# Altium footprint library MT_Connector.PcbLib: 46 footprints (part 1 of 3)
Each footprint in its own frame and in the unit in brackets; x right, y up, seen from the top. Pads: shape width x height; smd on the part's side, far side on the other; paste and mask are expansions set on the pad; w line width, h text height; cw(c..) or ccw(c..) is an arc to the next point about the centre after c.
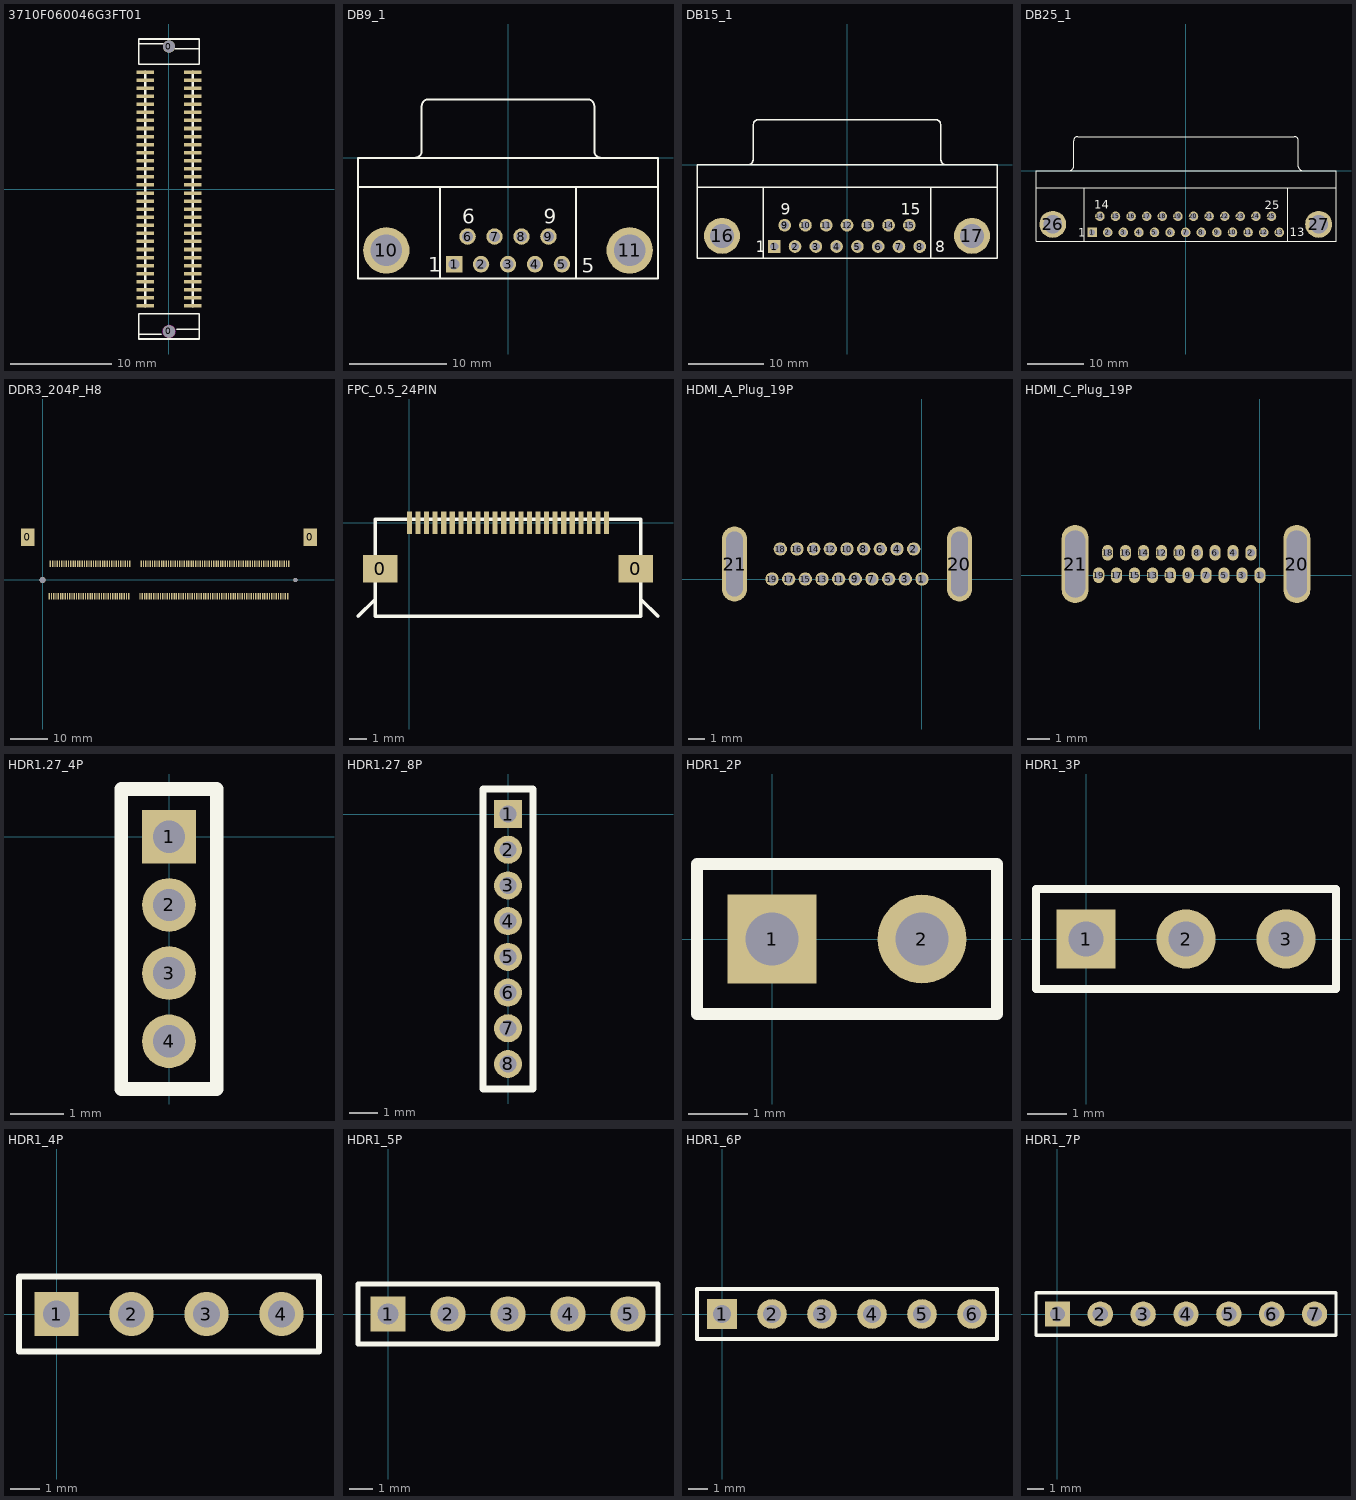
[diagram p0: the footprints below, top view; thin cyan lines are the x and y axes]

## 3710F060046G3FT01 [mm]
pads (62):
  round 1.2 hole 1.2: 0(0,-14.125) 0(0,14.125)
  rect 1.7x0.35 smd: 1(-2.35,11.6) 2(-2.35,10.8) 3(-2.35,10) 4(-2.35,9.2) 5(-2.35,8.4) 6(-2.35,7.6) 7(-2.35,6.8) 8(-2.35,6) 9(-2.35,5.2) 10(-2.35,4.4) 11(-2.35,3.6) 12(-2.35,2.8) 13(-2.35,2) 14(-2.35,1.2) 15(-2.35,0.4) 16(-2.35,-0.4) 17(-2.35,-1.2) 18(-2.35,-2) 19(-2.35,-2.8) 20(-2.35,-3.6) 21(-2.35,-4.4) 22(-2.35,-5.2) 23(-2.35,-6) 24(-2.35,-6.8) 25(-2.35,-7.6) 26(-2.35,-8.4) 27(-2.35,-9.2) 28(-2.35,-10) 29(-2.35,-10.8) 30(-2.35,-11.6) 31(2.35,-11.6) 32(2.35,-10.8) 33(2.35,-10) 34(2.35,-9.2) 35(2.35,-8.4) 36(2.35,-7.6) 37(2.35,-6.8) 38(2.35,-6) 39(2.35,-5.2) 40(2.35,-4.4) 41(2.35,-3.6) 42(2.35,-2.8) 43(2.35,-2) 44(2.35,-1.2) 45(2.35,-0.4) 46(2.35,0.4) 47(2.35,1.2) 48(2.35,2) 49(2.35,2.8) 50(2.35,3.6) 51(2.35,4.4) 52(2.35,5.2) 53(2.35,6) 54(2.35,6.8) 55(2.35,7.6) 56(2.35,8.4) 57(2.35,9.2) 58(2.35,10) 59(2.35,10.8) 60(2.35,11.6)
Top Overlay:
  lines w0.152: -3,-14.4 -0.75,-14.4 ; -3,14.4 -0.55,14.4 ; 0.55,13.9 3,13.9 ; 0.75,-13.9 3,-13.9 ; 2.975,12.375 -3,12.375 -3,14.875 3,14.875 3,12.375 ; -3,-14.875 -3,-12.375 3,-12.375 3,-14.875 -3,-14.875
  lines w0.254: -2.35,-11.6 -2.35,11.6 ; 2.35,-11.6 2.35,11.6
Keep-Out Layer:
  circle w0.152: c0,-14.125 r0.6
  circle w0.152: c0,14.125 r0.5

## DB9_1 [mm]
pads (11):
  rect 1.69x1.69 hole 1.09: 1(-5.54,-10.92)
  round 1.69 hole 1.09: 2(-2.77,-10.92) 3(0,-10.92) 4(2.77,-10.92) 5(5.54,-10.92) 6(-4.155,-8.08) 7(-1.385,-8.08) 8(1.385,-8.08) 9(4.155,-8.08)
  round 4.76 hole 3.26: 10(-12.495,-9.5) 11(12.495,-9.5)
Top Overlay:
  lines w0.2: -15.4,-3 15.4,-3 ; -9.56,0.005 ccw(c-9.56,0.7) -8.865,0.7 -8.865,5.3 ; -8.86,5.305 cw(c-8.165,5.305) -8.165,6 8.165,6 cw(c8.165,5.305) 8.86,5.305 ; -7,-12.4 -7,-3 ; 7,-12.4 7,-3 ; 8.865,5.3 8.865,0.7 ccw(c9.56,0.7) 9.56,0.005 ; -15.4,-12.4 15.4,-12.4 15.4,0 -15.4,0 -15.4,-12.4
  text "6" at -4.675,-6.775 h1.5
  text "9" at 3.65,-6.75 h1.5
  text "5" at 7.55,-11.775 h1.5
  text "1" at -8.165,-11.7 h1.5
3D body "DB9.STEP": height 12.53, standoff -3.97, extent -15.45,-12.4 15.45,6

## DB15_1 [mm]
pads (17):
  rect 1.69x1.69 hole 1.09: 1(-9.695,-10.92)
  round 1.69 hole 1.09: 2(-6.925,-10.92) 3(-4.155,-10.92) 4(-1.385,-10.92) 5(1.385,-10.92) 6(4.155,-10.92) 7(6.925,-10.92) 8(9.695,-10.92) 9(-8.31,-8.08) 10(-5.54,-8.08) 11(-2.77,-8.08) 12(0,-8.08) 13(2.77,-8.08) 14(5.54,-8.08) 15(8.31,-8.08)
  round 4.8 hole 3.18: 16(-16.66,-9.5) 17(16.66,-9.5)
Top Overlay:
  lines w0.2: -20,-3 20,-3 ; -13.195,0.005 ccw(c-13.195,0.7) -12.5,0.7 -12.5,5.3 ; -12.495,5.305 cw(c-11.8,5.305) -11.8,6 11.8,6 cw(c11.8,5.305) 12.495,5.305 ; -11.14,-12.5 -11.14,-3 ; 11.14,-12.5 11.14,-3 ; 12.5,5.3 12.5,0.7 ccw(c13.195,0.7) 13.195,0.005 ; -20,-12.5 20,-12.5 20,0 -20,0 -20,-12.5
  text "9" at -8.825,-6.7 h1.5
  text "15" at 7.175,-6.7 h1.5
  text "8" at 11.8,-11.7 h1.5
  text "1" at -12.175,-11.7 h1.5
3D body "SD15S-RA-PC.STEP": height 12.57, standoff -3.47, extent -20.125,-12.325 20.125,5.975

## DB25_1 [mm]
pads (27):
  rect 1.69x1.69 hole 1.09: 1(-16.566,-10.92)
  round 1.69 hole 1.09: 2(-13.805,-10.92) 3(-11.044,-10.92) 4(-8.283,-10.92) 5(-5.522,-10.92) 6(-2.761,-10.92) 7(0,-10.92) 8(2.761,-10.92) 9(5.522,-10.92) 10(8.283,-10.92) 11(11.044,-10.92) 12(13.805,-10.92) 13(16.566,-10.92) 14(-15.185,-8.08) 15(-12.424,-8.08) 16(-9.663,-8.08) 17(-6.902,-8.08) 18(-4.141,-8.08) 19(-1.38,-8.08) 20(1.381,-8.08) 21(4.142,-8.08) 22(6.903,-8.08) 23(9.664,-8.08) 24(12.425,-8.08) 25(15.186,-8.08)
  round 4.76 hole 3.26: 26(-23.526,-9.5) 27(23.526,-9.5)
Top Overlay:
  lines w0.2: -26.496,-3 26.604,-3 ; -20.541,0.005 ccw(c-20.541,0.7) -19.846,0.7 -19.846,5.3 ; -19.841,5.305 cw(c-19.146,5.305) -19.146,6 19.254,6 cw(c19.254,5.305) 19.949,5.305 ; -17.946,-12.5 -17.946,-3 ; 18.054,-12.5 18.054,-3 ; 19.954,5.3 19.954,0.7 ccw(c20.649,0.7) 20.649,0.005 ; -26.496,-12.5 -26.496,0 26.604,0 26.604,-12.5 -26.496,-12.5
  text "25" at 14,-6.825 h1.5
  text "14" at -16.225,-6.75 h1.5
  text "13" at 18.45,-11.6 h1.5
  text "1" at -19.05,-11.7 h1.5
3D body "DB25 Male Right Angle Connector.step": height 12.57, standoff -3.17, extent -26.471,-12.5 26.579,5.7

## DDR3_204P_H8 [mm]
pads (208):
  rect 3.5x4.6 smd: 0(-3.95,11.3) 0(70.75,11.3)
  rect 0.35x1.7 smd: 1(1.75,-4.3) 2(2.05,4.3) 3(2.35,-4.3) 4(2.65,4.3) 5(2.95,-4.3) 6(3.25,4.3) 7(3.55,-4.3) 8(3.85,4.3) 9(4.15,-4.3) 10(4.45,4.3) 11(4.75,-4.3) 12(5.05,4.3) 13(5.35,-4.3) 14(5.65,4.3) 15(5.95,-4.3) 16(6.25,4.3) 17(6.55,-4.3) 18(6.85,4.3) 19(7.15,-4.3) 20(7.45,4.3) 21(7.75,-4.3) 22(8.05,4.3) 23(8.35,-4.3) 24(8.65,4.3) 25(8.95,-4.3) 26(9.25,4.3) 27(9.55,-4.3) 28(9.85,4.3) 29(10.15,-4.3) 30(10.45,4.3) 31(10.75,-4.3) 32(11.05,4.3) 33(11.35,-4.3) 34(11.65,4.3) 35(11.95,-4.3) 36(12.25,4.3) 37(12.55,-4.3) 38(12.85,4.3) 39(13.15,-4.3) 40(13.45,4.3) 41(13.75,-4.3) 42(14.05,4.3) 43(14.35,-4.3) 44(14.65,4.3) 45(14.95,-4.3) 46(15.25,4.3) 47(15.55,-4.3) 48(15.85,4.3) 49(16.15,-4.3) 50(16.45,4.3) 51(16.75,-4.3) 52(17.05,4.3) 53(17.35,-4.3) 54(17.65,4.3) 55(17.95,-4.3) 56(18.25,4.3) 57(18.55,-4.3) 58(18.85,4.3) 59(19.15,-4.3) 60(19.45,4.3) 61(19.75,-4.3) 62(20.05,4.3) 63(20.35,-4.3) 64(20.65,4.3) 65(20.95,-4.3) 66(21.25,4.3) 67(21.55,-4.3) 68(21.85,4.3) 69(22.15,-4.3) 70(22.45,4.3) 71(22.75,-4.3) 72(23.05,4.3) 73(25.75,-4.3) 74(26.05,4.3) 75(26.35,-4.3) 76(26.65,4.3) 77(26.95,-4.3) 78(27.25,4.3) 79(27.55,-4.3) 80(27.85,4.3) 81(28.15,-4.3) 82(28.45,4.3) 83(28.75,-4.3) 84(29.05,4.3) 85(29.35,-4.3) 86(29.65,4.3) 87(29.95,-4.3) 88(30.25,4.3) 89(30.55,-4.3) 90(30.85,4.3) 91(31.15,-4.3) 92(31.45,4.3) 93(31.75,-4.3) 94(32.05,4.3) 95(32.35,-4.3) 96(32.65,4.3) 97(32.95,-4.3) 98(33.25,4.3) 99(33.55,-4.3) 100(33.85,4.3) 101(34.15,-4.3) 102(34.45,4.3) 103(34.75,-4.3) 104(35.05,4.3) 105(35.35,-4.3) 106(35.65,4.3) 107(35.95,-4.3) 108(36.25,4.3) 109(36.55,-4.3) 110(36.85,4.3) 111(37.15,-4.3) 112(37.45,4.3) 113(37.75,-4.3) 114(38.05,4.3) 115(38.35,-4.3) 116(38.65,4.3) 117(38.95,-4.3) 118(39.25,4.3) 119(39.55,-4.3) 120(39.85,4.3) 121(40.15,-4.3) 122(40.45,4.3) 123(40.75,-4.3) 124(41.05,4.3) 125(41.35,-4.3) 126(41.65,4.3) 127(41.95,-4.3) 128(42.25,4.3) 129(42.55,-4.3) 130(42.85,4.3) 131(43.15,-4.3) 132(43.45,4.3) 133(43.75,-4.3) 134(44.05,4.3) 135(44.35,-4.3) 136(44.65,4.3) 137(44.95,-4.3) 138(45.25,4.3) 139(45.55,-4.3) 140(45.85,4.3) 141(46.15,-4.3) 142(46.45,4.3) 143(46.75,-4.3) 144(47.05,4.3) 145(47.35,-4.3) 146(47.65,4.3) 147(47.95,-4.3) 148(48.25,4.3) 149(48.55,-4.3) 150(48.85,4.3) 151(49.15,-4.3) 152(49.45,4.3) 153(49.75,-4.3) 154(50.05,4.3) 155(50.35,-4.3) 156(50.65,4.3) 157(50.95,-4.3) 158(51.25,4.3) 159(51.55,-4.3) 160(51.85,4.3) 161(52.15,-4.3) 162(52.45,4.3) 163(52.75,-4.3) 164(53.05,4.3) 165(53.35,-4.3) 166(53.65,4.3) 167(53.95,-4.3) 168(54.25,4.3) 169(54.55,-4.3) 170(54.85,4.3) 171(55.15,-4.3) 172(55.45,4.3) 173(55.75,-4.3) 174(56.05,4.3) 175(56.35,-4.3) 176(56.65,4.3) 177(56.95,-4.3) 178(57.25,4.3) 179(57.55,-4.3) 180(57.85,4.3) 181(58.15,-4.3) 182(58.45,4.3) 183(58.75,-4.3) 184(59.05,4.3) 185(59.35,-4.3) 186(59.65,4.3) 187(59.95,-4.3) 188(60.25,4.3) 189(60.55,-4.3) 190(60.85,4.3) 191(61.15,-4.3) 192(61.45,4.3) 193(61.75,-4.3) 194(62.05,4.3) 195(62.35,-4.3) 196(62.65,4.3) 197(62.95,-4.3) 198(63.25,4.3) 199(63.55,-4.3) 200(63.85,4.3) 201(64.15,-4.3) 202(64.45,4.3) 203(64.75,-4.3) 204(65.05,4.3)
  round 1.6 hole 1.6 unplated: A(0,0)
  round 1.1 hole 1.1 unplated: A(66.8,0)
3D body "DDR3-204PIN-8MM.STEP": height 8.3, standoff -0.65, extent -4.55,-5 71.35,21.558

## FPC_0.5_24PIN [mm]
pads (26):
  rect 2x1.6 smd: 0(-1.7,-2.68) 0(13.2,-2.68)
  rect 0.3x1.3 smd: 1(0,0) 2(0.5,0) 3(1,0) 4(1.5,0) 5(2,0) 6(2.5,0) 7(3,0) 8(3.5,0) 9(4,0) 10(4.5,0) 11(5,0) 12(5.5,0) 13(6,0) 14(6.5,0) 15(7,0) 16(7.5,0) 17(8,0) 18(8.5,0) 19(9,0) 20(9.5,0) 21(10,0) 22(10.5,0) 23(11,0) 24(11.5,0)
Top Overlay:
  lines w0.2: -3,-5.45 -2,-4.45 ; 13.5,-4.45 14.5,-5.45 ; -2,-5.45 -2,0.2 13.5,0.2 13.5,-5.45 -2,-5.45
3D body "52435-2471.stp": height 2, standoff -0.05, extent -3.55,-4.975 15.05,0.225

## HDMI_A_Plug_19P [mm]
pads (21):
  round 0.8 hole 0.55: 1(0,0) 2(-0.5,1.8) 3(-1,0) 4(-1.5,1.8) 5(-2,0) 6(-2.5,1.8) 7(-3,0) 8(-3.5,1.8) 9(-4,0) 10(-4.5,1.8) 11(-5,0) 12(-5.5,1.8) 13(-6,0) 14(-6.5,1.8) 15(-7,0) 16(-7.5,1.8) 17(-8,0) 18(-8.5,1.8) 19(-9,0)
  oval 1.5x4.5 hole 1 slot 3.9 at 90 deg: 20(2.25,0.9) 21(-11.25,0.9)
3D body "hdmi_a_19_plug_stand.STEP": height 12.52, standoff -2.28, extent -11.65,-1.525 2.64,3.322

## HDMI_C_Plug_19P [mm]
pads (21):
  oval 0.5x0.7 hole 0.35: 1(0,0) 2(-0.4,1) 3(-0.8,0) 4(-1.2,1) 5(-1.6,0) 6(-2,1) 7(-2.4,0) 8(-2.8,1) 9(-3.2,0) 10(-3.6,1) 11(-4,0) 12(-4.4,1) 13(-4.8,0) 14(-5.2,1) 15(-5.6,0) 16(-6,1) 17(-6.4,0) 18(-6.8,1) 19(-7.2,0)
  oval 1.2x3.5 hole 0.9 slot 3 at 90 deg: 20(1.65,0.5) 21(-8.25,0.5)
3D body "hdmi_c_19_plug_stand.STEP": height 10.45, standoff -1.55, extent -8.55,-0.75 1.95,1.75

## HDR1.27_4P [mm]
pads (4):
  rect 1x1 hole 0.6: 1(0,0)
  round 1 hole 0.6: 2(0,-1.27) 3(0,-2.54) 4(0,-3.81)
Top Overlay:
  lines w0.254: -0.889,-4.699 -0.889,0.889 0.889,0.889 0.889,0 0.889,-4.699 -0.889,-4.699

## HDR1.27_8P [mm]
pads (8):
  rect 1x1 hole 0.6: 1(0,0)
  round 1 hole 0.6: 2(0,-1.27) 3(0,-2.54) 4(0,-3.81) 5(0,-5.08) 6(0,-6.35) 7(0,-7.62) 8(0,-8.89)
Top Overlay:
  lines w0.254: -0.889,-9.779 -0.889,0.889 0.889,0.889 0.889,0 0.889,-9.779 -0.889,-9.779

## HDR1_2P [mm]
pads (2):
  rect 1.5x1.5 hole 0.9: 1(0,0)
  round 1.5 hole 0.9: 2(2.54,0)
Top Overlay:
  lines w0.2: -1.27,-1.27 -1.27,1.27 3.81,1.27 3.81,-1.27 -1.27,-1.27

## HDR1_3P [mm]
pads (3):
  rect 1.5x1.5 hole 0.9: 1(0,0)
  round 1.5 hole 0.9: 2(2.54,0) 3(5.08,0)
Top Overlay:
  lines w0.2: -1.27,-1.27 6.35,-1.27 6.35,1.27 -1.27,1.27 -1.27,-1.27

## HDR1_4P [mm]
pads (4):
  rect 1.5x1.5 hole 0.9: 1(0,0)
  round 1.5 hole 0.9: 2(2.54,0) 3(5.08,0) 4(7.62,0)
Top Overlay:
  lines w0.2: -1.27,-1.27 -1.27,1.27 8.89,1.27 8.89,-1.27 -1.27,-1.27

## HDR1_5P [mm]
pads (5):
  rect 1.5x1.5 hole 0.9: 1(0,0)
  round 1.5 hole 0.9: 2(2.54,0) 3(5.08,0) 4(7.62,0) 5(10.16,0)
Top Overlay:
  lines w0.2: -1.27,-1.27 11.43,-1.27 11.43,1.27 -1.27,1.27 -1.27,-1.27

## HDR1_6P [mm]
pads (6):
  rect 1.5x1.5 hole 0.9: 1(0,0)
  round 1.5 hole 0.9: 2(2.54,0) 3(5.08,0) 4(7.62,0) 5(10.16,0) 6(12.7,0)
Top Overlay:
  lines w0.2: -1.27,-1.27 13.97,-1.27 13.97,1.27 -1.27,1.27 -1.27,-1.27

## HDR1_7P [mm]
pads (7):
  rect 1.5x1.5 hole 0.9: 1(0,0)
  round 1.5 hole 0.9: 2(2.54,0) 3(5.08,0) 4(7.62,0) 5(10.16,0) 6(12.7,0) 7(15.24,0)
Top Overlay:
  lines w0.2: -1.27,-1.27 -1.27,1.27 16.51,1.27 16.51,-1.27 -1.27,-1.27